# Altium schematic symbol library Power and Battery Management.SchLib: 645 symbols (part 1 of 15)
Pins are listed as number, name and electrical type; pins without a type are passive.

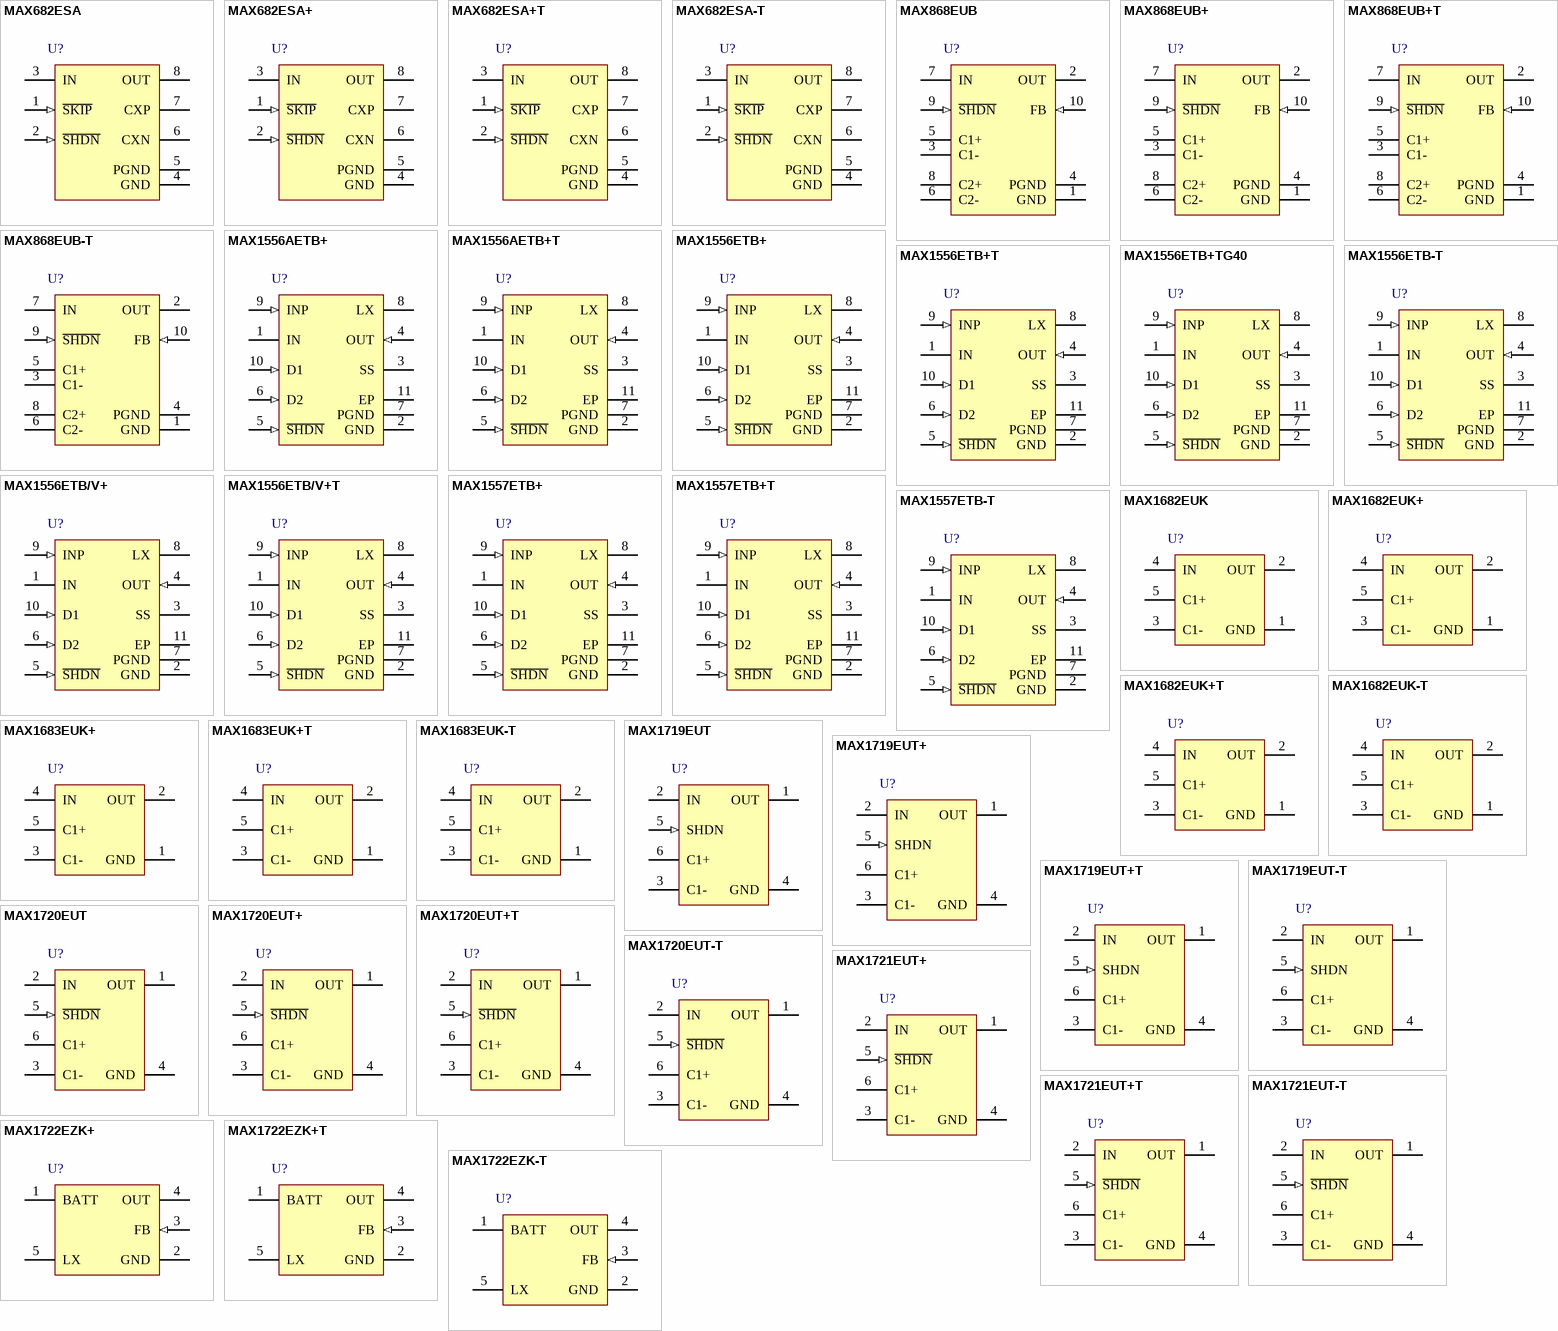
[diagram p0: symbols MAX682ESA to MAX1722EZK-T]

## MAX682ESA
designator U?
3.3V Input to Regulated 5V Output Charge Pump, 8-Pin SOIC, -40°C to +85°C; DatasheetVersion: Rev 1, Aug-1998; PackageVersion: revC, 2010; PackageReference: S8-5; PackageDescription: 8-Pin Small-Outline IC, Narrow (0.15in), 1.27 mm Pitch, SOIC (N); Code_JEDEC: MS-012-AA; Code_IPC: SOIC127P600-8; ComponentLink1Description: Manufacturer URL; ComponentLink1URL: http://www.maxim-ic.com; ComponentLink2Description: Datasheet; ComponentLink2URL: http://datasheets.maxim-ic.com/en/ds/MAX682-MAX684.pdf; ComponentLink3Description: Package Specification; ComponentLink3URL: http://pdfserv.maxim-ic.com/package_dwgs/21-0041.PDF
footprint S8-5_N (SOIC, 8-Leads, Body 4.9x3.9mm, Pitch 1.27mm, IPC Medium Density)
footprint S8-5_L (SOIC, 8-Leads, Body 4.9x3.9mm, Pitch 1.27mm, IPC High Density)
footprint S8-5_M (SOIC, 8-Leads, Body 4.9x3.9mm, Pitch 1.27mm, IPC Low Density)
pins: 1 ~{SKIP} (in), 2 ~{SHDN} (in), 3 IN (power), 4 GND (power), 5 PGND (power), 6 CXN, 7 CXP, 8 OUT (power)

## MAX682ESA+
designator U?
3.3V Input to Regulated 5V Output Charge Pump, 8-Pin SOIC, -40°C to +85°C, Pb-Free; DatasheetVersion: Rev 1, Aug-1998; PackageVersion: revC, 2010; PackageReference: S8+5; PackageDescription: 8-Pin Small-Outline IC, Narrow (0.15in), 1.27 mm Pitch, SOIC (N), Pb-Free; Code_JEDEC: MS-012-AA; Code_IPC: SOIC127P600-8; ComponentLink1Description: Manufacturer URL; ComponentLink1URL: http://www.maxim-ic.com; ComponentLink2Description: Datasheet; ComponentLink2URL: http://datasheets.maxim-ic.com/en/ds/MAX682-MAX684.pdf; ComponentLink3Description: Package Specification; ComponentLink3URL: http://pdfserv.maxim-ic.com/package_dwgs/21-0041.PDF
footprint S8+5_N (SOIC, 8-Leads, Body 4.9x3.9mm, Pitch 1.27mm, IPC Medium Density)
footprint S8+5_L (SOIC, 8-Leads, Body 4.9x3.9mm, Pitch 1.27mm, IPC High Density)
footprint S8+5_M (SOIC, 8-Leads, Body 4.9x3.9mm, Pitch 1.27mm, IPC Low Density)
pins: 1 ~{SKIP} (in), 2 ~{SHDN} (in), 3 IN (power), 4 GND (power), 5 PGND (power), 6 CXN, 7 CXP, 8 OUT (power)

## MAX682ESA+T
designator U?
3.3V Input to Regulated 5V Output Charge Pump, 8-Pin SOIC, -40°C to +85°C, Pb-Free, Tape and Reel; DatasheetVersion: Rev 1, Aug-1998; PackageVersion: revC, 2010; PackageReference: S8+5; PackageDescription: 8-Pin Small-Outline IC, Narrow (0.15in), 1.27 mm Pitch, SOIC (N), Pb-Free; Code_JEDEC: MS-012-AA; Code_IPC: SOIC127P600-8; ComponentLink1Description: Manufacturer URL; ComponentLink1URL: http://www.maxim-ic.com; ComponentLink2Description: Datasheet; ComponentLink2URL: http://datasheets.maxim-ic.com/en/ds/MAX682-MAX684.pdf; ComponentLink3Description: Package Specification; ComponentLink3URL: http://pdfserv.maxim-ic.com/package_dwgs/21-0041.PDF
footprint S8+5_N (SOIC, 8-Leads, Body 4.9x3.9mm, Pitch 1.27mm, IPC Medium Density)
footprint S8+5_L (SOIC, 8-Leads, Body 4.9x3.9mm, Pitch 1.27mm, IPC High Density)
footprint S8+5_M (SOIC, 8-Leads, Body 4.9x3.9mm, Pitch 1.27mm, IPC Low Density)
pins: 1 ~{SKIP} (in), 2 ~{SHDN} (in), 3 IN (power), 4 GND (power), 5 PGND (power), 6 CXN, 7 CXP, 8 OUT (power)

## MAX682ESA-T
designator U?
3.3V Input to Regulated 5V Output Charge Pump, 8-Pin SOIC, -40°C to +85°C, Tape and Reel; DatasheetVersion: Rev 1, Aug-1998; PackageVersion: revC, 2010; PackageReference: S8-5; PackageDescription: 8-Pin Small-Outline IC, Narrow (0.15in), 1.27 mm Pitch, SOIC (N); Code_JEDEC: MS-012-AA; Code_IPC: SOIC127P600-8; ComponentLink1Description: Manufacturer URL; ComponentLink1URL: http://www.maxim-ic.com; ComponentLink2Description: Datasheet; ComponentLink2URL: http://datasheets.maxim-ic.com/en/ds/MAX682-MAX684.pdf; ComponentLink3Description: Package Specification; ComponentLink3URL: http://pdfserv.maxim-ic.com/package_dwgs/21-0041.PDF
footprint S8-5_N (SOIC, 8-Leads, Body 4.9x3.9mm, Pitch 1.27mm, IPC Medium Density)
footprint S8-5_L (SOIC, 8-Leads, Body 4.9x3.9mm, Pitch 1.27mm, IPC High Density)
footprint S8-5_M (SOIC, 8-Leads, Body 4.9x3.9mm, Pitch 1.27mm, IPC Low Density)
pins: 1 ~{SKIP} (in), 2 ~{SHDN} (in), 3 IN (power), 4 GND (power), 5 PGND (power), 6 CXN, 7 CXP, 8 OUT (power)

## MAX868EUB
designator U?
Regulated, Adjustable -2x Inverting Charge Pump, 10-Pin uMAX, -40°C to +85°C; DatasheetVersion: Rev 1, Feb-1998; PackageVersion: revL, 2008; PackageReference: U10-2; PackageDescription: 10-Pin Micro-MAX Thin Shrink Small Outline (uSOP), 3 x 3 x 0.85 mm Body, 0.5 mm Pitch; Code_JEDEC: MO-187-BA; ComponentLink1Description: Manufacturer URL; ComponentLink1URL: http://www.maxim-ic.com; ComponentLink2Description: Datasheet; ComponentLink2URL: http://datasheets.maxim-ic.com/en/ds/MAX868.pdf; ComponentLink3Description: Package Specification; ComponentLink3URL: http://pdfserv.maxim-ic.com/package_dwgs/21-0061.PDF
footprint U10-2_N (TSSOP, 10-Leads, Body 3x3mm, Pitch 0.5mm, IPC Medium Density)
footprint U10-2_L (TSSOP, 10-Leads, Body 3x3mm, Pitch 0.5mm, IPC High Density)
footprint U10-2_M (TSSOP, 10-Leads, Body 3x3mm, Pitch 0.5mm, IPC Low Density)
pins: 1 GND (power), 2 OUT (power), 3 C1-, 4 PGND (power), 5 C1+, 6 C2-, 7 IN (power), 8 C2+, 9 ~{SHDN} (in), 10 FB (in)

## MAX868EUB+
designator U?
Regulated, Adjustable -2x Inverting Charge Pump, 10-Pin uMAX, -40°C to +85°C, Pb-Free; DatasheetVersion: Rev 1, Feb-1998; PackageVersion: revL, 2008; PackageReference: U10+2; PackageDescription: 10-Pin Micro-MAX Thin Shrink Small Outline (uSOP), 3 x 3 x 0.85 mm Body, 0.5 mm Pitch, Pb-Free; Code_JEDEC: MO-187-BA; ComponentLink1Description: Manufacturer URL; ComponentLink1URL: http://www.maxim-ic.com; ComponentLink2Description: Datasheet; ComponentLink2URL: http://datasheets.maxim-ic.com/en/ds/MAX868.pdf; ComponentLink3Description: Package Specification; ComponentLink3URL: http://pdfserv.maxim-ic.com/package_dwgs/21-0061.PDF
footprint U10+2_N (TSSOP, 10-Leads, Body 3x3mm, Pitch 0.5mm, IPC Medium Density)
footprint U10+2_L (TSSOP, 10-Leads, Body 3x3mm, Pitch 0.5mm, IPC High Density)
footprint U10+2_M (TSSOP, 10-Leads, Body 3x3mm, Pitch 0.5mm, IPC Low Density)
pins: 1 GND (power), 2 OUT (power), 3 C1-, 4 PGND (power), 5 C1+, 6 C2-, 7 IN (power), 8 C2+, 9 ~{SHDN} (in), 10 FB (in)

## MAX868EUB+T
designator U?
Regulated, Adjustable -2x Inverting Charge Pump, 10-Pin uMAX, -40°C to +85°C, Pb-Free, Tape and Reel; DatasheetVersion: Rev 1, Feb-1998; PackageVersion: revL, 2008; PackageReference: U10+2; PackageDescription: 10-Pin Micro-MAX Thin Shrink Small Outline (uSOP), 3 x 3 x 0.85 mm Body, 0.5 mm Pitch, Pb-Free; Code_JEDEC: MO-187-BA; ComponentLink1Description: Manufacturer URL; ComponentLink1URL: http://www.maxim-ic.com; ComponentLink2Description: Datasheet; ComponentLink2URL: http://datasheets.maxim-ic.com/en/ds/MAX868.pdf; ComponentLink3Description: Package Specification; ComponentLink3URL: http://pdfserv.maxim-ic.com/package_dwgs/21-0061.PDF
footprint U10+2_N (TSSOP, 10-Leads, Body 3x3mm, Pitch 0.5mm, IPC Medium Density)
footprint U10+2_L (TSSOP, 10-Leads, Body 3x3mm, Pitch 0.5mm, IPC High Density)
footprint U10+2_M (TSSOP, 10-Leads, Body 3x3mm, Pitch 0.5mm, IPC Low Density)
pins: 1 GND (power), 2 OUT (power), 3 C1-, 4 PGND (power), 5 C1+, 6 C2-, 7 IN (power), 8 C2+, 9 ~{SHDN} (in), 10 FB (in)

## MAX868EUB-T
designator U?
Regulated, Adjustable -2x Inverting Charge Pump, 10-Pin uMAX, -40°C to +85°C, Tape and Reel; DatasheetVersion: Rev 1, Feb-1998; PackageVersion: revL, 2008; PackageReference: U10-2; PackageDescription: 10-Pin Micro-MAX Thin Shrink Small Outline (uSOP), 3 x 3 x 0.85 mm Body, 0.5 mm Pitch; Code_JEDEC: MO-187-BA; ComponentLink1Description: Manufacturer URL; ComponentLink1URL: http://www.maxim-ic.com; ComponentLink2Description: Datasheet; ComponentLink2URL: http://datasheets.maxim-ic.com/en/ds/MAX868.pdf; ComponentLink3Description: Package Specification; ComponentLink3URL: http://pdfserv.maxim-ic.com/package_dwgs/21-0061.PDF
footprint U10-2_N (TSSOP, 10-Leads, Body 3x3mm, Pitch 0.5mm, IPC Medium Density)
footprint U10-2_L (TSSOP, 10-Leads, Body 3x3mm, Pitch 0.5mm, IPC High Density)
footprint U10-2_M (TSSOP, 10-Leads, Body 3x3mm, Pitch 0.5mm, IPC Low Density)
pins: 1 GND (power), 2 OUT (power), 3 C1-, 4 PGND (power), 5 C1+, 6 C2-, 7 IN (power), 8 C2+, 9 ~{SHDN} (in), 10 FB (in)

## MAX1556AETB+
designator U?
16uA IQ, 1.2A PWM Step-Down DC-DC Converter, 1.8V; 2.5V; 3.3V output, 10-Pin TDFN-EP, -40°C to +85°C, Pb-Free; DatasheetVersion: Rev 3, Jan-2011; PackageVersion: revJ, 2009; PackageReference: T1033+1; PackageDescription: 10-Pin Plastic Very Very Thin Dual Flatpack No Leads, Exposed Pad, 3 x 3 x 0.8 mm Body, TDFN-EP, Pb-Free; Code_JEDEC: MO-229-WEED-3; ComponentLink1Description: Manufacturer URL; ComponentLink1URL: http://www.maxim-ic.com; ComponentLink2Description: Datasheet; ComponentLink2URL: http://datasheets.maxim-ic.com/en/ds/MAX1556-MAX1557.pdf; ComponentLink3Description: Package Specification; ComponentLink3URL: http://pdfserv.maxim-ic.com/package_dwgs/21-0137.PDF
footprint T1033+1_V (SON, 10-Leads, Body 3x3mm, Pitch 0.5mm, Thermal Pad 2.35x1.58mm, Maxim Recommended)
pins: 1 IN (power), 2 GND (power), 3 SS, 4 OUT (in), 5 ~{SHDN} (in), 6 D2 (in), 7 PGND (power), 8 LX, 9 INP (in), 10 D1 (in), 11 EP (power)

## MAX1556AETB+T
designator U?
16uA IQ, 1.2A PWM Step-Down DC-DC Converter, 1.8V; 2.5V; 3.3V output, 10-Pin TDFN-EP, -40°C to +85°C, Pb-Free, Tape and Reel; DatasheetVersion: Rev 3, Jan-2011; PackageVersion: revJ, 2009; PackageReference: T1033+1; PackageDescription: 10-Pin Plastic Very Very Thin Dual Flatpack No Leads, Exposed Pad, 3 x 3 x 0.8 mm Body, TDFN-EP, Pb-Free; Code_JEDEC: MO-229-WEED-3; ComponentLink1Description: Manufacturer URL; ComponentLink1URL: http://www.maxim-ic.com; ComponentLink2Description: Datasheet; ComponentLink2URL: http://datasheets.maxim-ic.com/en/ds/MAX1556-MAX1557.pdf; ComponentLink3Description: Package Specification; ComponentLink3URL: http://pdfserv.maxim-ic.com/package_dwgs/21-0137.PDF
footprint T1033+1_V (SON, 10-Leads, Body 3x3mm, Pitch 0.5mm, Thermal Pad 2.35x1.58mm, Maxim Recommended)
pins: 1 IN (power), 2 GND (power), 3 SS, 4 OUT (in), 5 ~{SHDN} (in), 6 D2 (in), 7 PGND (power), 8 LX, 9 INP (in), 10 D1 (in), 11 EP (power)

## MAX1556ETB+
designator U?
16uA IQ, 1.2A PWM Step-Down DC-DC Converter, 1.8V; 2.5V; 3.3V output, 10-Pin TDFN-EP, -40°C to +85°C, Pb-Free; DatasheetVersion: Rev 3, Jan-2011; PackageVersion: revJ, 2009; PackageReference: T1033+1; PackageDescription: 10-Pin Plastic Very Very Thin Dual Flatpack No Leads, Exposed Pad, 3 x 3 x 0.8 mm Body, TDFN-EP, Pb-Free; Code_JEDEC: MO-229-WEED-3; ComponentLink1Description: Manufacturer URL; ComponentLink1URL: http://www.maxim-ic.com; ComponentLink2Description: Datasheet; ComponentLink2URL: http://datasheets.maxim-ic.com/en/ds/MAX1556-MAX1557.pdf; ComponentLink3Description: Package Specification; ComponentLink3URL: http://pdfserv.maxim-ic.com/package_dwgs/21-0137.PDF
footprint T1033+1_V (SON, 10-Leads, Body 3x3mm, Pitch 0.5mm, Thermal Pad 2.35x1.58mm, Maxim Recommended)
pins: 1 IN (power), 2 GND (power), 3 SS, 4 OUT (in), 5 ~{SHDN} (in), 6 D2 (in), 7 PGND (power), 8 LX, 9 INP (in), 10 D1 (in), 11 EP (power)

## MAX1556ETB+T
designator U?
16uA IQ, 1.2A PWM Step-Down DC-DC Converter, 1.8V; 2.5V; 3.3V output, 10-Pin TDFN-EP, -40°C to +85°C, Pb-Free, Tape and Reel; DatasheetVersion: Rev 3, Jan-2011; PackageVersion: revJ, 2009; PackageReference: T1033+1; PackageDescription: 10-Pin Plastic Very Very Thin Dual Flatpack No Leads, Exposed Pad, 3 x 3 x 0.8 mm Body, TDFN-EP, Pb-Free; Code_JEDEC: MO-229-WEED-3; ComponentLink1Description: Manufacturer URL; ComponentLink1URL: http://www.maxim-ic.com; ComponentLink2Description: Datasheet; ComponentLink2URL: http://datasheets.maxim-ic.com/en/ds/MAX1556-MAX1557.pdf; ComponentLink3Description: Package Specification; ComponentLink3URL: http://pdfserv.maxim-ic.com/package_dwgs/21-0137.PDF
footprint T1033+1_V (SON, 10-Leads, Body 3x3mm, Pitch 0.5mm, Thermal Pad 2.35x1.58mm, Maxim Recommended)
pins: 1 IN (power), 2 GND (power), 3 SS, 4 OUT (in), 5 ~{SHDN} (in), 6 D2 (in), 7 PGND (power), 8 LX, 9 INP (in), 10 D1 (in), 11 EP (power)

## MAX1556ETB+TG40
designator U?
16uA IQ, 1.2A PWM Step-Down DC-DC Converter, 1.8V; 2.5V; 3.3V output, 10-Pin TDFN-EP, -40°C to +85°C, Pb-Free, Tape and Reel; DatasheetVersion: Rev 3, Jan-2011; PackageVersion: revJ, 2009; PackageReference: T1033+1; PackageDescription: 10-Pin Plastic Very Very Thin Dual Flatpack No Leads, Exposed Pad, 3 x 3 x 0.8 mm Body, TDFN-EP, Pb-Free; Code_JEDEC: MO-229-WEED-3; ComponentLink1Description: Manufacturer URL; ComponentLink1URL: http://www.maxim-ic.com; ComponentLink2Description: Datasheet; ComponentLink2URL: http://datasheets.maxim-ic.com/en/ds/MAX1556-MAX1557.pdf; ComponentLink3Description: Package Specification; ComponentLink3URL: http://pdfserv.maxim-ic.com/package_dwgs/21-0137.PDF
footprint T1033+1_V (SON, 10-Leads, Body 3x3mm, Pitch 0.5mm, Thermal Pad 2.35x1.58mm, Maxim Recommended)
pins: 1 IN (power), 2 GND (power), 3 SS, 4 OUT (in), 5 ~{SHDN} (in), 6 D2 (in), 7 PGND (power), 8 LX, 9 INP (in), 10 D1 (in), 11 EP (power)

## MAX1556ETB-T
designator U?
16uA IQ, 1.2A PWM Step-Down DC-DC Converter, 1.8V; 2.5V; 3.3V output, 10-Pin TDFN-EP, -40°C to +85°C, Tape and Reel; DatasheetVersion: Rev 3, Jan-2011; PackageVersion: revJ, 2009; PackageReference: T1033-1; PackageDescription: 10-Pin Plastic Very Very Thin Dual Flatpack No Leads, Exposed Pad, 3 x 3 x 0.8 mm Body, TDFN-EP; Code_JEDEC: MO-229-WEED-3; ComponentLink1Description: Manufacturer URL; ComponentLink1URL: http://www.maxim-ic.com; ComponentLink2Description: Datasheet; ComponentLink2URL: http://datasheets.maxim-ic.com/en/ds/MAX1556-MAX1557.pdf; ComponentLink3Description: Package Specification; ComponentLink3URL: http://pdfserv.maxim-ic.com/package_dwgs/21-0137.PDF
footprint T1033-1_V (SON, 10-Leads, Body 3x3mm, Pitch 0.5mm, Thermal Pad 2.35x1.58mm, Maxim Recommended)
pins: 1 IN (power), 2 GND (power), 3 SS, 4 OUT (in), 5 ~{SHDN} (in), 6 D2 (in), 7 PGND (power), 8 LX, 9 INP (in), 10 D1 (in), 11 EP (power)

## MAX1556ETB/V+
designator U?
16uA IQ, 1.2A PWM Step-Down DC-DC Converter, 1.8V; 2.5V; 3.3V output, 10-Pin TDFN-EP, -40°C to +85°C, Pb-Free; DatasheetVersion: Rev 3, Jan-2011; PackageVersion: revJ, 2009; PackageReference: T1033+1; PackageDescription: 10-Pin Plastic Very Very Thin Dual Flatpack No Leads, Exposed Pad, 3 x 3 x 0.8 mm Body, TDFN-EP, Pb-Free; Code_JEDEC: MO-229-WEED-3; ComponentLink1Description: Manufacturer URL; ComponentLink1URL: http://www.maxim-ic.com; ComponentLink2Description: Datasheet; ComponentLink2URL: http://datasheets.maxim-ic.com/en/ds/MAX1556-MAX1557.pdf; ComponentLink3Description: Package Specification; ComponentLink3URL: http://pdfserv.maxim-ic.com/package_dwgs/21-0137.PDF
footprint T1033+1_V (SON, 10-Leads, Body 3x3mm, Pitch 0.5mm, Thermal Pad 2.35x1.58mm, Maxim Recommended)
pins: 1 IN (power), 2 GND (power), 3 SS, 4 OUT (in), 5 ~{SHDN} (in), 6 D2 (in), 7 PGND (power), 8 LX, 9 INP (in), 10 D1 (in), 11 EP (power)

## MAX1556ETB/V+T
designator U?
16uA IQ, 1.2A PWM Step-Down DC-DC Converter, 1.8V; 2.5V; 3.3V output, 10-Pin TDFN-EP, -40°C to +85°C, Pb-Free, Tape and Reel; DatasheetVersion: Rev 3, Jan-2011; PackageVersion: revJ, 2009; PackageReference: T1033+1; PackageDescription: 10-Pin Plastic Very Very Thin Dual Flatpack No Leads, Exposed Pad, 3 x 3 x 0.8 mm Body, TDFN-EP, Pb-Free; Code_JEDEC: MO-229-WEED-3; ComponentLink1Description: Manufacturer URL; ComponentLink1URL: http://www.maxim-ic.com; ComponentLink2Description: Datasheet; ComponentLink2URL: http://datasheets.maxim-ic.com/en/ds/MAX1556-MAX1557.pdf; ComponentLink3Description: Package Specification; ComponentLink3URL: http://pdfserv.maxim-ic.com/package_dwgs/21-0137.PDF
footprint T1033+1_V (SON, 10-Leads, Body 3x3mm, Pitch 0.5mm, Thermal Pad 2.35x1.58mm, Maxim Recommended)
pins: 1 IN (power), 2 GND (power), 3 SS, 4 OUT (in), 5 ~{SHDN} (in), 6 D2 (in), 7 PGND (power), 8 LX, 9 INP (in), 10 D1 (in), 11 EP (power)

## MAX1557ETB+
designator U?
16uA IQ, 1.2A PWM Step-Down DC-DC Converter, 1V; 1.3V; 1.5V output, 10-Pin TDFN-EP, -40°C to +85°C, Pb-Free; DatasheetVersion: Rev 3, Jan-2011; PackageVersion: revJ, 2009; PackageReference: T1033+1; PackageDescription: 10-Pin Plastic Very Very Thin Dual Flatpack No Leads, Exposed Pad, 3 x 3 x 0.8 mm Body, TDFN-EP, Pb-Free; Code_JEDEC: MO-229-WEED-3; ComponentLink1Description: Manufacturer URL; ComponentLink1URL: http://www.maxim-ic.com; ComponentLink2Description: Datasheet; ComponentLink2URL: http://datasheets.maxim-ic.com/en/ds/MAX1556-MAX1557.pdf; ComponentLink3Description: Package Specification; ComponentLink3URL: http://pdfserv.maxim-ic.com/package_dwgs/21-0137.PDF
footprint T1033+1_V (SON, 10-Leads, Body 3x3mm, Pitch 0.5mm, Thermal Pad 2.35x1.58mm, Maxim Recommended)
pins: 1 IN (power), 2 GND (power), 3 SS, 4 OUT (in), 5 ~{SHDN} (in), 6 D2 (in), 7 PGND (power), 8 LX, 9 INP (in), 10 D1 (in), 11 EP (power)

## MAX1557ETB+T
designator U?
16uA IQ, 1.2A PWM Step-Down DC-DC Converter, 1V; 1.3V; 1.5V output, 10-Pin TDFN-EP, -40°C to +85°C, Pb-Free, Tape and Reel; DatasheetVersion: Rev 3, Jan-2011; PackageVersion: revJ, 2009; PackageReference: T1033+1; PackageDescription: 10-Pin Plastic Very Very Thin Dual Flatpack No Leads, Exposed Pad, 3 x 3 x 0.8 mm Body, TDFN-EP, Pb-Free; Code_JEDEC: MO-229-WEED-3; ComponentLink1Description: Manufacturer URL; ComponentLink1URL: http://www.maxim-ic.com; ComponentLink2Description: Datasheet; ComponentLink2URL: http://datasheets.maxim-ic.com/en/ds/MAX1556-MAX1557.pdf; ComponentLink3Description: Package Specification; ComponentLink3URL: http://pdfserv.maxim-ic.com/package_dwgs/21-0137.PDF
footprint T1033+1_V (SON, 10-Leads, Body 3x3mm, Pitch 0.5mm, Thermal Pad 2.35x1.58mm, Maxim Recommended)
pins: 1 IN (power), 2 GND (power), 3 SS, 4 OUT (in), 5 ~{SHDN} (in), 6 D2 (in), 7 PGND (power), 8 LX, 9 INP (in), 10 D1 (in), 11 EP (power)

## MAX1557ETB-T
designator U?
16uA IQ, 1.2A PWM Step-Down DC-DC Converter, 1V; 1.3V; 1.5V output, 10-Pin TDFN-EP, -40°C to +85°C, Tape and Reel; DatasheetVersion: Rev 3, Jan-2011; PackageVersion: revJ, 2009; PackageReference: T1033-1; PackageDescription: 10-Pin Plastic Very Very Thin Dual Flatpack No Leads, Exposed Pad, 3 x 3 x 0.8 mm Body, TDFN-EP; Code_JEDEC: MO-229-WEED-3; ComponentLink1Description: Manufacturer URL; ComponentLink1URL: http://www.maxim-ic.com; ComponentLink2Description: Datasheet; ComponentLink2URL: http://datasheets.maxim-ic.com/en/ds/MAX1556-MAX1557.pdf; ComponentLink3Description: Package Specification; ComponentLink3URL: http://pdfserv.maxim-ic.com/package_dwgs/21-0137.PDF
footprint T1033-1_V (SON, 10-Leads, Body 3x3mm, Pitch 0.5mm, Thermal Pad 2.35x1.58mm, Maxim Recommended)
pins: 1 IN (power), 2 GND (power), 3 SS, 4 OUT (in), 5 ~{SHDN} (in), 6 D2 (in), 7 PGND (power), 8 LX, 9 INP (in), 10 D1 (in), 11 EP (power)

## MAX1682EUK
designator U?
Switched-Capacitor Voltage Doubler, 12kHz Oscillator, 5-Pin SOT, -40°C to +85°C; DatasheetVersion: Rev 3, Nov-2010; PackageVersion: revF, 2006; PackageReference: U5-2; PackageDescription: 5-Pin Small-Outline Transistor Package, 0.95 mm Pitch, 2.8 mm Lead Span, SOT-23; Code_JEDEC: MO-178AA; ComponentLink1Description: Manufacturer URL; ComponentLink1URL: http://www.maxim-ic.com; ComponentLink2Description: Datasheet; ComponentLink2URL: http://datasheets.maxim-ic.com/en/ds/MAX1682-MAX1683.pdf; ComponentLink3Description: Package Specification; ComponentLink3URL: http://pdfserv.maxim-ic.com/package_dwgs/21-0057.PDF
footprint U5-2_N (SOT23, 5-Leads, Body 2.9x1.6mm, Pitch 0.95mm, Lead Span 2.8mm, IPC Medium Density)
footprint U5-2_L (SOT23, 5-Leads, Body 2.9x1.6mm, Pitch 0.95mm, Lead Span 2.8mm, IPC High Density)
footprint U5-2_M (SOT23, 5-Leads, Body 2.9x1.6mm, Pitch 0.95mm, Lead Span 2.8mm, IPC Low Density)
pins: 1 GND (power), 2 OUT (power), 3 C1-, 4 IN (power), 5 C1+

## MAX1682EUK+
designator U?
Switched-Capacitor Voltage Doubler, 12kHz Oscillator, 5-Pin SOT, -40°C to +85°C, Pb-Free; DatasheetVersion: Rev 3, Nov-2010; PackageVersion: revF, 2006; PackageReference: U5+2; PackageDescription: 5-Pin Small-Outline Transistor Package, 0.95 mm Pitch, 2.8 mm Lead Span, SOT-23, Pb-Free; Code_JEDEC: MO-178AA; ComponentLink1Description: Manufacturer URL; ComponentLink1URL: http://www.maxim-ic.com; ComponentLink2Description: Datasheet; ComponentLink2URL: http://datasheets.maxim-ic.com/en/ds/MAX1682-MAX1683.pdf; ComponentLink3Description: Package Specification; ComponentLink3URL: http://pdfserv.maxim-ic.com/package_dwgs/21-0057.PDF
footprint U5+2_N (SOT23, 5-Leads, Body 2.9x1.6mm, Pitch 0.95mm, Lead Span 2.8mm, IPC Medium Density)
footprint U5+2_L (SOT23, 5-Leads, Body 2.9x1.6mm, Pitch 0.95mm, Lead Span 2.8mm, IPC High Density)
footprint U5+2_M (SOT23, 5-Leads, Body 2.9x1.6mm, Pitch 0.95mm, Lead Span 2.8mm, IPC Low Density)
pins: 1 GND (power), 2 OUT (power), 3 C1-, 4 IN (power), 5 C1+

## MAX1682EUK+T
designator U?
Switched-Capacitor Voltage Doubler, 12kHz Oscillator, 5-Pin SOT, -40°C to +85°C, Pb-Free, Tape and Reel; DatasheetVersion: Rev 3, Nov-2010; PackageVersion: revF, 2006; PackageReference: U5+2; PackageDescription: 5-Pin Small-Outline Transistor Package, 0.95 mm Pitch, 2.8 mm Lead Span, SOT-23, Pb-Free; Code_JEDEC: MO-178AA; ComponentLink1Description: Manufacturer URL; ComponentLink1URL: http://www.maxim-ic.com; ComponentLink2Description: Datasheet; ComponentLink2URL: http://datasheets.maxim-ic.com/en/ds/MAX1682-MAX1683.pdf; ComponentLink3Description: Package Specification; ComponentLink3URL: http://pdfserv.maxim-ic.com/package_dwgs/21-0057.PDF
footprint U5+2_N (SOT23, 5-Leads, Body 2.9x1.6mm, Pitch 0.95mm, Lead Span 2.8mm, IPC Medium Density)
footprint U5+2_L (SOT23, 5-Leads, Body 2.9x1.6mm, Pitch 0.95mm, Lead Span 2.8mm, IPC High Density)
footprint U5+2_M (SOT23, 5-Leads, Body 2.9x1.6mm, Pitch 0.95mm, Lead Span 2.8mm, IPC Low Density)
pins: 1 GND (power), 2 OUT (power), 3 C1-, 4 IN (power), 5 C1+

## MAX1682EUK-T
designator U?
Switched-Capacitor Voltage Doubler, 12kHz Oscillator, 5-Pin SOT, -40°C to +85°C, Tape and Reel; DatasheetVersion: Rev 3, Nov-2010; PackageVersion: revF, 2006; PackageReference: U5-2; PackageDescription: 5-Pin Small-Outline Transistor Package, 0.95 mm Pitch, 2.8 mm Lead Span, SOT-23; Code_JEDEC: MO-178AA; ComponentLink1Description: Manufacturer URL; ComponentLink1URL: http://www.maxim-ic.com; ComponentLink2Description: Datasheet; ComponentLink2URL: http://datasheets.maxim-ic.com/en/ds/MAX1682-MAX1683.pdf; ComponentLink3Description: Package Specification; ComponentLink3URL: http://pdfserv.maxim-ic.com/package_dwgs/21-0057.PDF
footprint U5-2_N (SOT23, 5-Leads, Body 2.9x1.6mm, Pitch 0.95mm, Lead Span 2.8mm, IPC Medium Density)
footprint U5-2_L (SOT23, 5-Leads, Body 2.9x1.6mm, Pitch 0.95mm, Lead Span 2.8mm, IPC High Density)
footprint U5-2_M (SOT23, 5-Leads, Body 2.9x1.6mm, Pitch 0.95mm, Lead Span 2.8mm, IPC Low Density)
pins: 1 GND (power), 2 OUT (power), 3 C1-, 4 IN (power), 5 C1+

## MAX1683EUK+
designator U?
Switched-Capacitor Voltage Doubler, 35kHz Oscillator, 5-Pin SOT, -40°C to +85°C, Pb-Free; DatasheetVersion: Rev 3, Nov-2010; PackageVersion: revF, 2006; PackageReference: U5+2; PackageDescription: 5-Pin Small-Outline Transistor Package, 0.95 mm Pitch, 2.8 mm Lead Span, SOT-23, Pb-Free; Code_JEDEC: MO-178AA; ComponentLink1Description: Manufacturer URL; ComponentLink1URL: http://www.maxim-ic.com; ComponentLink2Description: Datasheet; ComponentLink2URL: http://datasheets.maxim-ic.com/en/ds/MAX1682-MAX1683.pdf; ComponentLink3Description: Package Specification; ComponentLink3URL: http://pdfserv.maxim-ic.com/package_dwgs/21-0057.PDF
footprint U5+2_N (SOT23, 5-Leads, Body 2.9x1.6mm, Pitch 0.95mm, Lead Span 2.8mm, IPC Medium Density)
footprint U5+2_L (SOT23, 5-Leads, Body 2.9x1.6mm, Pitch 0.95mm, Lead Span 2.8mm, IPC High Density)
footprint U5+2_M (SOT23, 5-Leads, Body 2.9x1.6mm, Pitch 0.95mm, Lead Span 2.8mm, IPC Low Density)
pins: 1 GND (power), 2 OUT (power), 3 C1-, 4 IN (power), 5 C1+

## MAX1683EUK+T
designator U?
Switched-Capacitor Voltage Doubler, 35kHz Oscillator, 5-Pin SOT, -40°C to +85°C, Pb-Free, Tape and Reel; DatasheetVersion: Rev 3, Nov-2010; PackageVersion: revF, 2006; PackageReference: U5+2; PackageDescription: 5-Pin Small-Outline Transistor Package, 0.95 mm Pitch, 2.8 mm Lead Span, SOT-23, Pb-Free; Code_JEDEC: MO-178AA; ComponentLink1Description: Manufacturer URL; ComponentLink1URL: http://www.maxim-ic.com; ComponentLink2Description: Datasheet; ComponentLink2URL: http://datasheets.maxim-ic.com/en/ds/MAX1682-MAX1683.pdf; ComponentLink3Description: Package Specification; ComponentLink3URL: http://pdfserv.maxim-ic.com/package_dwgs/21-0057.PDF
footprint U5+2_N (SOT23, 5-Leads, Body 2.9x1.6mm, Pitch 0.95mm, Lead Span 2.8mm, IPC Medium Density)
footprint U5+2_L (SOT23, 5-Leads, Body 2.9x1.6mm, Pitch 0.95mm, Lead Span 2.8mm, IPC High Density)
footprint U5+2_M (SOT23, 5-Leads, Body 2.9x1.6mm, Pitch 0.95mm, Lead Span 2.8mm, IPC Low Density)
pins: 1 GND (power), 2 OUT (power), 3 C1-, 4 IN (power), 5 C1+

## MAX1683EUK-T
designator U?
Switched-Capacitor Voltage Doubler, 35kHz Oscillator, 5-Pin SOT, -40°C to +85°C, Tape and Reel; DatasheetVersion: Rev 3, Nov-2010; PackageVersion: revF, 2006; PackageReference: U5-2; PackageDescription: 5-Pin Small-Outline Transistor Package, 0.95 mm Pitch, 2.8 mm Lead Span, SOT-23; Code_JEDEC: MO-178AA; ComponentLink1Description: Manufacturer URL; ComponentLink1URL: http://www.maxim-ic.com; ComponentLink2Description: Datasheet; ComponentLink2URL: http://datasheets.maxim-ic.com/en/ds/MAX1682-MAX1683.pdf; ComponentLink3Description: Package Specification; ComponentLink3URL: http://pdfserv.maxim-ic.com/package_dwgs/21-0057.PDF
footprint U5-2_N (SOT23, 5-Leads, Body 2.9x1.6mm, Pitch 0.95mm, Lead Span 2.8mm, IPC Medium Density)
footprint U5-2_L (SOT23, 5-Leads, Body 2.9x1.6mm, Pitch 0.95mm, Lead Span 2.8mm, IPC High Density)
footprint U5-2_M (SOT23, 5-Leads, Body 2.9x1.6mm, Pitch 0.95mm, Lead Span 2.8mm, IPC Low Density)
pins: 1 GND (power), 2 OUT (power), 3 C1-, 4 IN (power), 5 C1+

## MAX1719EUT
designator U?
Switched-Capacitor Voltage Inverter with Shutdown, 125kHz, 6-Pin SOT, -40°C to +85°C; DatasheetVersion: Rev 2, Apr-2004; PackageVersion: revL, 2011; PackageReference: U6-4; PackageDescription: 6-Pin SOT-23 Package, 0.65 mm Pitch, 2.2 mm Lead Span; Code_JEDEC: MO-178-AB; ComponentLink1Description: Manufacturer URL; ComponentLink1URL: http://www.maxim-ic.com; ComponentLink2Description: Datasheet; ComponentLink2URL: http://datasheets.maxim-ic.com/en/ds/MAX1719-MAX1721.pdf; ComponentLink3Description: Package Specification; ComponentLink3URL: http://pdfserv.maxim-ic.com/package_dwgs/21-0058.PDF
footprint U6-4_N (SOT23, 6-Leads, Body 2.9x1.6mm, Pitch 0.95mm, Lead Span 2.8mm, IPC Medium Density)
footprint U6-4_L (SOT23, 6-Leads, Body 2.9x1.6mm, Pitch 0.95mm, Lead Span 2.8mm, IPC High Density)
footprint U6-4_M (SOT23, 6-Leads, Body 2.9x1.6mm, Pitch 0.95mm, Lead Span 2.8mm, IPC Low Density)
pins: 1 OUT (power), 2 IN (power), 3 C1-, 4 GND (power), 5 SHDN (in), 6 C1+

## MAX1719EUT+
designator U?
Switched-Capacitor Voltage Inverter with Shutdown, 125kHz, 6-Pin SOT, -40°C to +85°C, Pb-Free; DatasheetVersion: Rev 2, Apr-2004; PackageVersion: revL, 2011; PackageReference: U6+4; PackageDescription: 6-Pin SOT-23 Package, 0.65 mm Pitch, 2.2 mm Lead Span, Pb-Free; Code_JEDEC: MO-178-AB; ComponentLink1Description: Manufacturer URL; ComponentLink1URL: http://www.maxim-ic.com; ComponentLink2Description: Datasheet; ComponentLink2URL: http://datasheets.maxim-ic.com/en/ds/MAX1719-MAX1721.pdf; ComponentLink3Description: Package Specification; ComponentLink3URL: http://pdfserv.maxim-ic.com/package_dwgs/21-0058.PDF
footprint U6+4_N (SOT23, 6-Leads, Body 2.9x1.6mm, Pitch 0.95mm, Lead Span 2.8mm, IPC Medium Density)
footprint U6+4_L (SOT23, 6-Leads, Body 2.9x1.6mm, Pitch 0.95mm, Lead Span 2.8mm, IPC High Density)
footprint U6+4_M (SOT23, 6-Leads, Body 2.9x1.6mm, Pitch 0.95mm, Lead Span 2.8mm, IPC Low Density)
pins: 1 OUT (power), 2 IN (power), 3 C1-, 4 GND (power), 5 SHDN (in), 6 C1+

## MAX1719EUT+T
designator U?
Switched-Capacitor Voltage Inverter with Shutdown, 125kHz, 6-Pin SOT, -40°C to +85°C, Pb-Free, Tape and Reel; DatasheetVersion: Rev 2, Apr-2004; PackageVersion: revL, 2011; PackageReference: U6+4; PackageDescription: 6-Pin SOT-23 Package, 0.65 mm Pitch, 2.2 mm Lead Span, Pb-Free; Code_JEDEC: MO-178-AB; ComponentLink1Description: Manufacturer URL; ComponentLink1URL: http://www.maxim-ic.com; ComponentLink2Description: Datasheet; ComponentLink2URL: http://datasheets.maxim-ic.com/en/ds/MAX1719-MAX1721.pdf; ComponentLink3Description: Package Specification; ComponentLink3URL: http://pdfserv.maxim-ic.com/package_dwgs/21-0058.PDF
footprint U6+4_N (SOT23, 6-Leads, Body 2.9x1.6mm, Pitch 0.95mm, Lead Span 2.8mm, IPC Medium Density)
footprint U6+4_L (SOT23, 6-Leads, Body 2.9x1.6mm, Pitch 0.95mm, Lead Span 2.8mm, IPC High Density)
footprint U6+4_M (SOT23, 6-Leads, Body 2.9x1.6mm, Pitch 0.95mm, Lead Span 2.8mm, IPC Low Density)
pins: 1 OUT (power), 2 IN (power), 3 C1-, 4 GND (power), 5 SHDN (in), 6 C1+

## MAX1719EUT-T
designator U?
Switched-Capacitor Voltage Inverter with Shutdown, 125kHz, 6-Pin SOT, -40°C to +85°C, Tape and Reel; DatasheetVersion: Rev 2, Apr-2004; PackageVersion: revL, 2011; PackageReference: U6-4; PackageDescription: 6-Pin SOT-23 Package, 0.65 mm Pitch, 2.2 mm Lead Span; Code_JEDEC: MO-178-AB; ComponentLink1Description: Manufacturer URL; ComponentLink1URL: http://www.maxim-ic.com; ComponentLink2Description: Datasheet; ComponentLink2URL: http://datasheets.maxim-ic.com/en/ds/MAX1719-MAX1721.pdf; ComponentLink3Description: Package Specification; ComponentLink3URL: http://pdfserv.maxim-ic.com/package_dwgs/21-0058.PDF
footprint U6-4_N (SOT23, 6-Leads, Body 2.9x1.6mm, Pitch 0.95mm, Lead Span 2.8mm, IPC Medium Density)
footprint U6-4_L (SOT23, 6-Leads, Body 2.9x1.6mm, Pitch 0.95mm, Lead Span 2.8mm, IPC High Density)
footprint U6-4_M (SOT23, 6-Leads, Body 2.9x1.6mm, Pitch 0.95mm, Lead Span 2.8mm, IPC Low Density)
pins: 1 OUT (power), 2 IN (power), 3 C1-, 4 GND (power), 5 SHDN (in), 6 C1+

## MAX1720EUT
designator U?
Switched-Capacitor Voltage Inverter with Shutdown, 12kHz, 6-Pin SOT, -40°C to +85°C; DatasheetVersion: Rev 2, Apr-2004; PackageVersion: revL, 2011; PackageReference: U6-4; PackageDescription: 6-Pin SOT-23 Package, 0.65 mm Pitch, 2.2 mm Lead Span; Code_JEDEC: MO-178-AB; ComponentLink1Description: Manufacturer URL; ComponentLink1URL: http://www.maxim-ic.com; ComponentLink2Description: Datasheet; ComponentLink2URL: http://datasheets.maxim-ic.com/en/ds/MAX1719-MAX1721.pdf; ComponentLink3Description: Package Specification; ComponentLink3URL: http://pdfserv.maxim-ic.com/package_dwgs/21-0058.PDF
footprint U6-4_N (SOT23, 6-Leads, Body 2.9x1.6mm, Pitch 0.95mm, Lead Span 2.8mm, IPC Medium Density)
footprint U6-4_L (SOT23, 6-Leads, Body 2.9x1.6mm, Pitch 0.95mm, Lead Span 2.8mm, IPC High Density)
footprint U6-4_M (SOT23, 6-Leads, Body 2.9x1.6mm, Pitch 0.95mm, Lead Span 2.8mm, IPC Low Density)
pins: 1 OUT (power), 2 IN (power), 3 C1-, 4 GND (power), 5 ~{SHDN} (in), 6 C1+

## MAX1720EUT+
designator U?
Switched-Capacitor Voltage Inverter with Shutdown, 12kHz, 6-Pin SOT, -40°C to +85°C, Pb-Free; DatasheetVersion: Rev 2, Apr-2004; PackageVersion: revL, 2011; PackageReference: U6+4; PackageDescription: 6-Pin SOT-23 Package, 0.65 mm Pitch, 2.2 mm Lead Span, Pb-Free; Code_JEDEC: MO-178-AB; ComponentLink1Description: Manufacturer URL; ComponentLink1URL: http://www.maxim-ic.com; ComponentLink2Description: Datasheet; ComponentLink2URL: http://datasheets.maxim-ic.com/en/ds/MAX1719-MAX1721.pdf; ComponentLink3Description: Package Specification; ComponentLink3URL: http://pdfserv.maxim-ic.com/package_dwgs/21-0058.PDF
footprint U6+4_N (SOT23, 6-Leads, Body 2.9x1.6mm, Pitch 0.95mm, Lead Span 2.8mm, IPC Medium Density)
footprint U6+4_L (SOT23, 6-Leads, Body 2.9x1.6mm, Pitch 0.95mm, Lead Span 2.8mm, IPC High Density)
footprint U6+4_M (SOT23, 6-Leads, Body 2.9x1.6mm, Pitch 0.95mm, Lead Span 2.8mm, IPC Low Density)
pins: 1 OUT (power), 2 IN (power), 3 C1-, 4 GND (power), 5 ~{SHDN} (in), 6 C1+

## MAX1720EUT+T
designator U?
Switched-Capacitor Voltage Inverter with Shutdown, 12kHz, 6-Pin SOT, -40°C to +85°C, Pb-Free, Tape and Reel; DatasheetVersion: Rev 2, Apr-2004; PackageVersion: revL, 2011; PackageReference: U6+4; PackageDescription: 6-Pin SOT-23 Package, 0.65 mm Pitch, 2.2 mm Lead Span, Pb-Free; Code_JEDEC: MO-178-AB; ComponentLink1Description: Manufacturer URL; ComponentLink1URL: http://www.maxim-ic.com; ComponentLink2Description: Datasheet; ComponentLink2URL: http://datasheets.maxim-ic.com/en/ds/MAX1719-MAX1721.pdf; ComponentLink3Description: Package Specification; ComponentLink3URL: http://pdfserv.maxim-ic.com/package_dwgs/21-0058.PDF
footprint U6+4_N (SOT23, 6-Leads, Body 2.9x1.6mm, Pitch 0.95mm, Lead Span 2.8mm, IPC Medium Density)
footprint U6+4_L (SOT23, 6-Leads, Body 2.9x1.6mm, Pitch 0.95mm, Lead Span 2.8mm, IPC High Density)
footprint U6+4_M (SOT23, 6-Leads, Body 2.9x1.6mm, Pitch 0.95mm, Lead Span 2.8mm, IPC Low Density)
pins: 1 OUT (power), 2 IN (power), 3 C1-, 4 GND (power), 5 ~{SHDN} (in), 6 C1+

## MAX1720EUT-T
designator U?
Switched-Capacitor Voltage Inverter with Shutdown, 12kHz, 6-Pin SOT, -40°C to +85°C, Tape and Reel; DatasheetVersion: Rev 2, Apr-2004; PackageVersion: revL, 2011; PackageReference: U6-4; PackageDescription: 6-Pin SOT-23 Package, 0.65 mm Pitch, 2.2 mm Lead Span; Code_JEDEC: MO-178-AB; ComponentLink1Description: Manufacturer URL; ComponentLink1URL: http://www.maxim-ic.com; ComponentLink2Description: Datasheet; ComponentLink2URL: http://datasheets.maxim-ic.com/en/ds/MAX1719-MAX1721.pdf; ComponentLink3Description: Package Specification; ComponentLink3URL: http://pdfserv.maxim-ic.com/package_dwgs/21-0058.PDF
footprint U6-4_N (SOT23, 6-Leads, Body 2.9x1.6mm, Pitch 0.95mm, Lead Span 2.8mm, IPC Medium Density)
footprint U6-4_L (SOT23, 6-Leads, Body 2.9x1.6mm, Pitch 0.95mm, Lead Span 2.8mm, IPC High Density)
footprint U6-4_M (SOT23, 6-Leads, Body 2.9x1.6mm, Pitch 0.95mm, Lead Span 2.8mm, IPC Low Density)
pins: 1 OUT (power), 2 IN (power), 3 C1-, 4 GND (power), 5 ~{SHDN} (in), 6 C1+

## MAX1721EUT+
designator U?
Switched-Capacitor Voltage Inverter with Shutdown, 125kHz, 6-Pin SOT, -40°C to +85°C, Pb-Free; DatasheetVersion: Rev 2, Apr-2004; PackageVersion: revL, 2011; PackageReference: U6+4; PackageDescription: 6-Pin SOT-23 Package, 0.65 mm Pitch, 2.2 mm Lead Span, Pb-Free; Code_JEDEC: MO-178-AB; ComponentLink1Description: Manufacturer URL; ComponentLink1URL: http://www.maxim-ic.com; ComponentLink2Description: Datasheet; ComponentLink2URL: http://datasheets.maxim-ic.com/en/ds/MAX1719-MAX1721.pdf; ComponentLink3Description: Package Specification; ComponentLink3URL: http://pdfserv.maxim-ic.com/package_dwgs/21-0058.PDF
footprint U6+4_N (SOT23, 6-Leads, Body 2.9x1.6mm, Pitch 0.95mm, Lead Span 2.8mm, IPC Medium Density)
footprint U6+4_L (SOT23, 6-Leads, Body 2.9x1.6mm, Pitch 0.95mm, Lead Span 2.8mm, IPC High Density)
footprint U6+4_M (SOT23, 6-Leads, Body 2.9x1.6mm, Pitch 0.95mm, Lead Span 2.8mm, IPC Low Density)
pins: 1 OUT (power), 2 IN (power), 3 C1-, 4 GND (power), 5 ~{SHDN} (in), 6 C1+

## MAX1721EUT+T
designator U?
Switched-Capacitor Voltage Inverter with Shutdown, 125kHz, 6-Pin SOT, -40°C to +85°C, Pb-Free, Tape and Reel; DatasheetVersion: Rev 2, Apr-2004; PackageVersion: revL, 2011; PackageReference: U6+4; PackageDescription: 6-Pin SOT-23 Package, 0.65 mm Pitch, 2.2 mm Lead Span, Pb-Free; Code_JEDEC: MO-178-AB; ComponentLink1Description: Manufacturer URL; ComponentLink1URL: http://www.maxim-ic.com; ComponentLink2Description: Datasheet; ComponentLink2URL: http://datasheets.maxim-ic.com/en/ds/MAX1719-MAX1721.pdf; ComponentLink3Description: Package Specification; ComponentLink3URL: http://pdfserv.maxim-ic.com/package_dwgs/21-0058.PDF
footprint U6+4_N (SOT23, 6-Leads, Body 2.9x1.6mm, Pitch 0.95mm, Lead Span 2.8mm, IPC Medium Density)
footprint U6+4_L (SOT23, 6-Leads, Body 2.9x1.6mm, Pitch 0.95mm, Lead Span 2.8mm, IPC High Density)
footprint U6+4_M (SOT23, 6-Leads, Body 2.9x1.6mm, Pitch 0.95mm, Lead Span 2.8mm, IPC Low Density)
pins: 1 OUT (power), 2 IN (power), 3 C1-, 4 GND (power), 5 ~{SHDN} (in), 6 C1+

## MAX1721EUT-T
designator U?
Switched-Capacitor Voltage Inverter with Shutdown, 125kHz, 6-Pin SOT, -40°C to +85°C, Tape and Reel; DatasheetVersion: Rev 2, Apr-2004; PackageVersion: revL, 2011; PackageReference: U6-4; PackageDescription: 6-Pin SOT-23 Package, 0.65 mm Pitch, 2.2 mm Lead Span; Code_JEDEC: MO-178-AB; ComponentLink1Description: Manufacturer URL; ComponentLink1URL: http://www.maxim-ic.com; ComponentLink2Description: Datasheet; ComponentLink2URL: http://datasheets.maxim-ic.com/en/ds/MAX1719-MAX1721.pdf; ComponentLink3Description: Package Specification; ComponentLink3URL: http://pdfserv.maxim-ic.com/package_dwgs/21-0058.PDF
footprint U6-4_N (SOT23, 6-Leads, Body 2.9x1.6mm, Pitch 0.95mm, Lead Span 2.8mm, IPC Medium Density)
footprint U6-4_L (SOT23, 6-Leads, Body 2.9x1.6mm, Pitch 0.95mm, Lead Span 2.8mm, IPC High Density)
footprint U6-4_M (SOT23, 6-Leads, Body 2.9x1.6mm, Pitch 0.95mm, Lead Span 2.8mm, IPC Low Density)
pins: 1 OUT (power), 2 IN (power), 3 C1-, 4 GND (power), 5 ~{SHDN} (in), 6 C1+

## MAX1722EZK+
designator U?
1.5uA IQ, Step-Up DC-DC Converter, Adjustable output, LX damping, 5-Pin SOT, -40°C to +85°C, Pb-Free; DatasheetVersion: Rev 0, Jul-2001; PackageVersion: revD, 2010; PackageReference: Z5+1; PackageDescription: 5-Pin Thin Small-Outline Transistor, 2.9 x 1.6 mm Body, 0.95 mm Pitch, 2.8 mm Lead Span, SOT-23, Pb-Free; Code_JEITA: SC-74; Code_JEDEC: MO-193*; ComponentLink1Description: Manufacturer URL; ComponentLink1URL: http://www.maxim-ic.com; ComponentLink2Description: Datasheet; ComponentLink2URL: http://datasheets.maxim-ic.com/en/ds/MAX1722-MAX1724.pdf; ComponentLink3Description: Package Specification; ComponentLink3URL: http://pdfserv.maxim-ic.com/package_dwgs/21-0113.PDF
footprint Z5+1_N (SOT23, 5-Leads, Body 2.9x1.6mm, Pitch 0.95mm, Lead Span 2.8mm, IPC Medium Density)
footprint Z5+1_L (SOT23, 5-Leads, Body 2.9x1.6mm, Pitch 0.95mm, Lead Span 2.8mm, IPC High Density)
footprint Z5+1_M (SOT23, 5-Leads, Body 2.9x1.6mm, Pitch 0.95mm, Lead Span 2.8mm, IPC Low Density)
pins: 1 BATT (power), 2 GND (power), 3 FB (in), 4 OUT (power), 5 LX

## MAX1722EZK+T
designator U?
1.5uA IQ, Step-Up DC-DC Converter, Adjustable output, LX damping, 5-Pin SOT, -40°C to +85°C, Pb-Free, Tape and Reel; DatasheetVersion: Rev 0, Jul-2001; PackageVersion: revD, 2010; PackageReference: Z5+1; PackageDescription: 5-Pin Thin Small-Outline Transistor, 2.9 x 1.6 mm Body, 0.95 mm Pitch, 2.8 mm Lead Span, SOT-23, Pb-Free; Code_JEITA: SC-74; Code_JEDEC: MO-193*; ComponentLink1Description: Manufacturer URL; ComponentLink1URL: http://www.maxim-ic.com; ComponentLink2Description: Datasheet; ComponentLink2URL: http://datasheets.maxim-ic.com/en/ds/MAX1722-MAX1724.pdf; ComponentLink3Description: Package Specification; ComponentLink3URL: http://pdfserv.maxim-ic.com/package_dwgs/21-0113.PDF
footprint Z5+1_N (SOT23, 5-Leads, Body 2.9x1.6mm, Pitch 0.95mm, Lead Span 2.8mm, IPC Medium Density)
footprint Z5+1_L (SOT23, 5-Leads, Body 2.9x1.6mm, Pitch 0.95mm, Lead Span 2.8mm, IPC High Density)
footprint Z5+1_M (SOT23, 5-Leads, Body 2.9x1.6mm, Pitch 0.95mm, Lead Span 2.8mm, IPC Low Density)
pins: 1 BATT (power), 2 GND (power), 3 FB (in), 4 OUT (power), 5 LX

## MAX1722EZK-T
designator U?
1.5uA IQ, Step-Up DC-DC Converter, Adjustable output, LX damping, 5-Pin SOT, -40°C to +85°C, Tape and Reel; DatasheetVersion: Rev 0, Jul-2001; PackageVersion: revD, 2010; PackageReference: Z5-1; PackageDescription: 5-Pin Thin Small-Outline Transistor, 2.9 x 1.6 mm Body, 0.95 mm Pitch, 2.8 mm Lead Span, SOT-23; Code_JEITA: SC-74; Code_JEDEC: MO-193*; ComponentLink1Description: Manufacturer URL; ComponentLink1URL: http://www.maxim-ic.com; ComponentLink2Description: Datasheet; ComponentLink2URL: http://datasheets.maxim-ic.com/en/ds/MAX1722-MAX1724.pdf; ComponentLink3Description: Package Specification; ComponentLink3URL: http://pdfserv.maxim-ic.com/package_dwgs/21-0113.PDF
footprint Z5-1_N (SOT23, 5-Leads, Body 2.9x1.6mm, Pitch 0.95mm, Lead Span 2.8mm, IPC Medium Density)
footprint Z5-1_L (SOT23, 5-Leads, Body 2.9x1.6mm, Pitch 0.95mm, Lead Span 2.8mm, IPC High Density)
footprint Z5-1_M (SOT23, 5-Leads, Body 2.9x1.6mm, Pitch 0.95mm, Lead Span 2.8mm, IPC Low Density)
pins: 1 BATT (power), 2 GND (power), 3 FB (in), 4 OUT (power), 5 LX

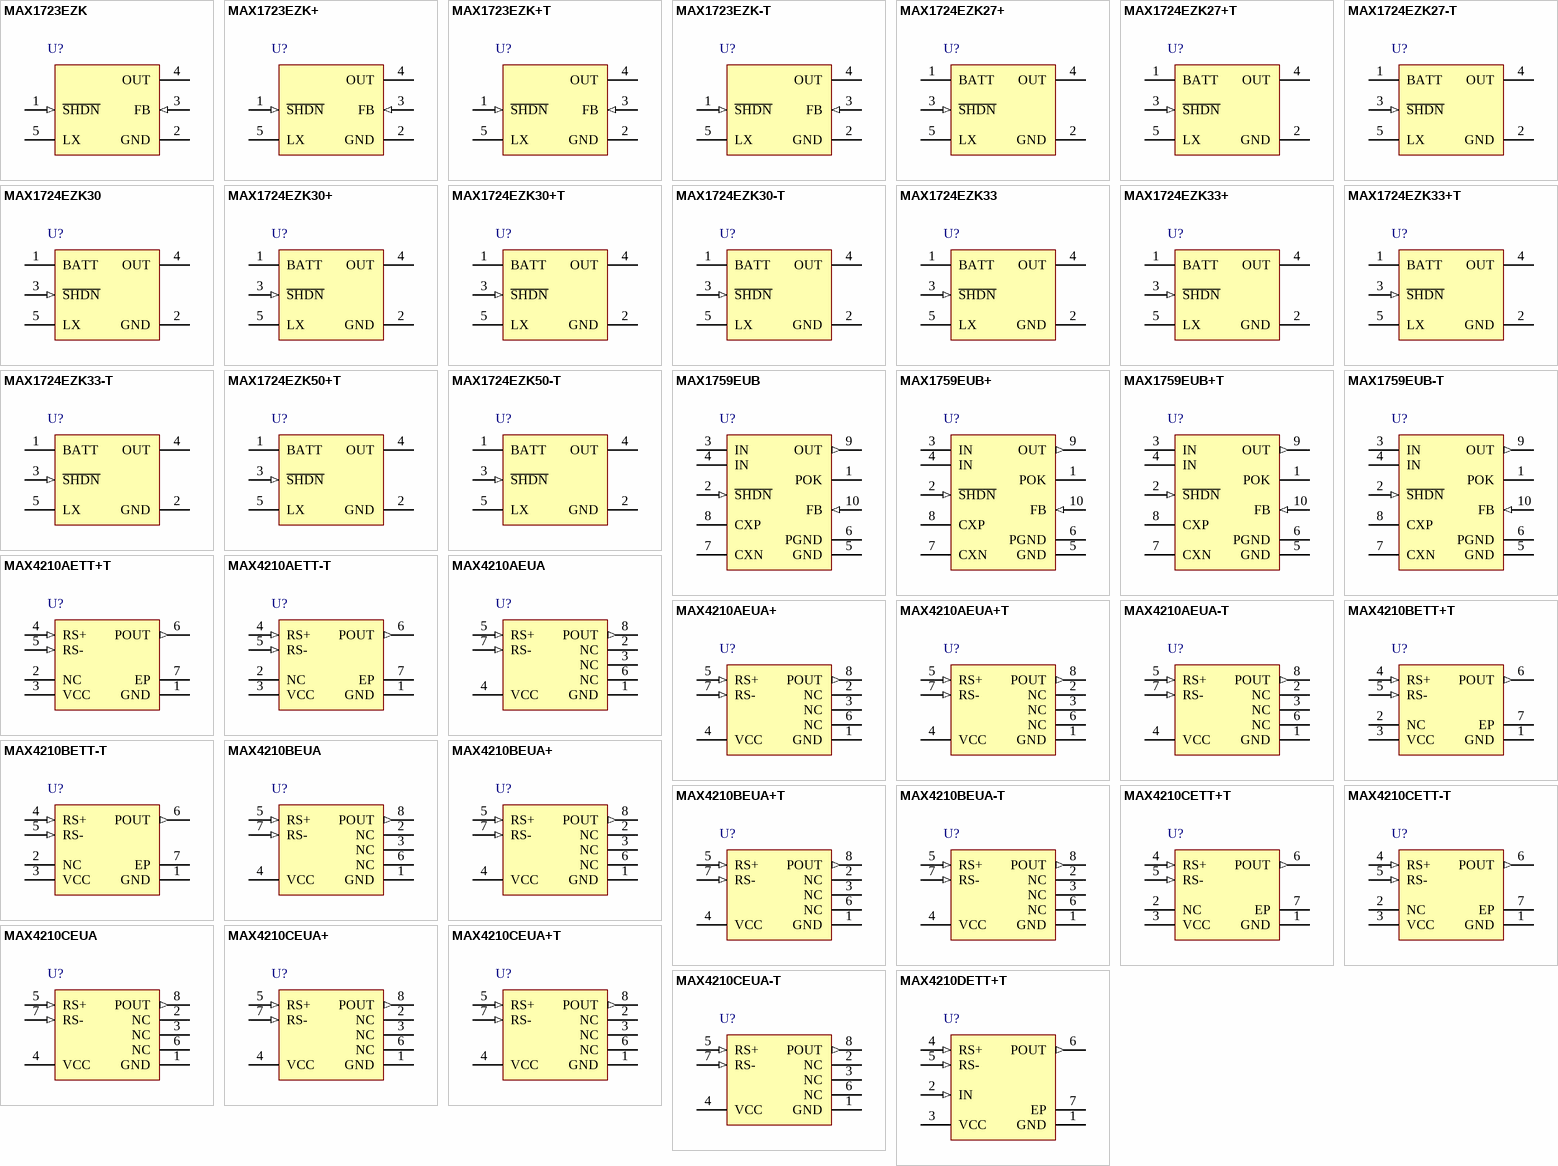
[diagram p1: symbols MAX1723EZK to MAX4210DETT+T]

## MAX1723EZK
designator U?
1.5uA IQ, Step-Up DC-DC Converter, Adjustable output, SHDN, 5-Pin SOT, -40°C to +85°C; DatasheetVersion: Rev 0, Jul-2001; PackageVersion: revD, 2010; PackageReference: Z5-1; PackageDescription: 5-Pin Thin Small-Outline Transistor, 2.9 x 1.6 mm Body, 0.95 mm Pitch, 2.8 mm Lead Span, SOT-23; Code_JEITA: SC-74; Code_JEDEC: MO-193*; ComponentLink1Description: Manufacturer URL; ComponentLink1URL: http://www.maxim-ic.com; ComponentLink2Description: Datasheet; ComponentLink2URL: http://datasheets.maxim-ic.com/en/ds/MAX1722-MAX1724.pdf; ComponentLink3Description: Package Specification; ComponentLink3URL: http://pdfserv.maxim-ic.com/package_dwgs/21-0113.PDF
footprint Z5-1_N (SOT23, 5-Leads, Body 2.9x1.6mm, Pitch 0.95mm, Lead Span 2.8mm, IPC Medium Density)
footprint Z5-1_L (SOT23, 5-Leads, Body 2.9x1.6mm, Pitch 0.95mm, Lead Span 2.8mm, IPC High Density)
footprint Z5-1_M (SOT23, 5-Leads, Body 2.9x1.6mm, Pitch 0.95mm, Lead Span 2.8mm, IPC Low Density)
pins: 1 ~{SHDN} (in), 2 GND (power), 3 FB (in), 4 OUT (power), 5 LX

## MAX1723EZK+
designator U?
1.5uA IQ, Step-Up DC-DC Converter, Adjustable output, SHDN, 5-Pin SOT, -40°C to +85°C, Pb-Free; DatasheetVersion: Rev 0, Jul-2001; PackageVersion: revD, 2010; PackageReference: Z5+1; PackageDescription: 5-Pin Thin Small-Outline Transistor, 2.9 x 1.6 mm Body, 0.95 mm Pitch, 2.8 mm Lead Span, SOT-23, Pb-Free; Code_JEITA: SC-74; Code_JEDEC: MO-193*; ComponentLink1Description: Manufacturer URL; ComponentLink1URL: http://www.maxim-ic.com; ComponentLink2Description: Datasheet; ComponentLink2URL: http://datasheets.maxim-ic.com/en/ds/MAX1722-MAX1724.pdf; ComponentLink3Description: Package Specification; ComponentLink3URL: http://pdfserv.maxim-ic.com/package_dwgs/21-0113.PDF
footprint Z5+1_N (SOT23, 5-Leads, Body 2.9x1.6mm, Pitch 0.95mm, Lead Span 2.8mm, IPC Medium Density)
footprint Z5+1_L (SOT23, 5-Leads, Body 2.9x1.6mm, Pitch 0.95mm, Lead Span 2.8mm, IPC High Density)
footprint Z5+1_M (SOT23, 5-Leads, Body 2.9x1.6mm, Pitch 0.95mm, Lead Span 2.8mm, IPC Low Density)
pins: 1 ~{SHDN} (in), 2 GND (power), 3 FB (in), 4 OUT (power), 5 LX

## MAX1723EZK+T
designator U?
1.5uA IQ, Step-Up DC-DC Converter, Adjustable output, SHDN, 5-Pin SOT, -40°C to +85°C, Pb-Free, Tape and Reel; DatasheetVersion: Rev 0, Jul-2001; PackageVersion: revD, 2010; PackageReference: Z5+1; PackageDescription: 5-Pin Thin Small-Outline Transistor, 2.9 x 1.6 mm Body, 0.95 mm Pitch, 2.8 mm Lead Span, SOT-23, Pb-Free; Code_JEITA: SC-74; Code_JEDEC: MO-193*; ComponentLink1Description: Manufacturer URL; ComponentLink1URL: http://www.maxim-ic.com; ComponentLink2Description: Datasheet; ComponentLink2URL: http://datasheets.maxim-ic.com/en/ds/MAX1722-MAX1724.pdf; ComponentLink3Description: Package Specification; ComponentLink3URL: http://pdfserv.maxim-ic.com/package_dwgs/21-0113.PDF
footprint Z5+1_N (SOT23, 5-Leads, Body 2.9x1.6mm, Pitch 0.95mm, Lead Span 2.8mm, IPC Medium Density)
footprint Z5+1_L (SOT23, 5-Leads, Body 2.9x1.6mm, Pitch 0.95mm, Lead Span 2.8mm, IPC High Density)
footprint Z5+1_M (SOT23, 5-Leads, Body 2.9x1.6mm, Pitch 0.95mm, Lead Span 2.8mm, IPC Low Density)
pins: 1 ~{SHDN} (in), 2 GND (power), 3 FB (in), 4 OUT (power), 5 LX

## MAX1723EZK-T
designator U?
1.5uA IQ, Step-Up DC-DC Converter, Adjustable output, SHDN, 5-Pin SOT, -40°C to +85°C, Tape and Reel; DatasheetVersion: Rev 0, Jul-2001; PackageVersion: revD, 2010; PackageReference: Z5-1; PackageDescription: 5-Pin Thin Small-Outline Transistor, 2.9 x 1.6 mm Body, 0.95 mm Pitch, 2.8 mm Lead Span, SOT-23; Code_JEITA: SC-74; Code_JEDEC: MO-193*; ComponentLink1Description: Manufacturer URL; ComponentLink1URL: http://www.maxim-ic.com; ComponentLink2Description: Datasheet; ComponentLink2URL: http://datasheets.maxim-ic.com/en/ds/MAX1722-MAX1724.pdf; ComponentLink3Description: Package Specification; ComponentLink3URL: http://pdfserv.maxim-ic.com/package_dwgs/21-0113.PDF
footprint Z5-1_N (SOT23, 5-Leads, Body 2.9x1.6mm, Pitch 0.95mm, Lead Span 2.8mm, IPC Medium Density)
footprint Z5-1_L (SOT23, 5-Leads, Body 2.9x1.6mm, Pitch 0.95mm, Lead Span 2.8mm, IPC High Density)
footprint Z5-1_M (SOT23, 5-Leads, Body 2.9x1.6mm, Pitch 0.95mm, Lead Span 2.8mm, IPC Low Density)
pins: 1 ~{SHDN} (in), 2 GND (power), 3 FB (in), 4 OUT (power), 5 LX

## MAX1724EZK27+
designator U?
1.5uA IQ, Step-Up DC-DC Converter, 2.7V output, SHDN, LX damping, 5-Pin SOT, -40°C to +85°C, Pb-Free; DatasheetVersion: Rev 0, Jul-2001; PackageVersion: revD, 2010; PackageReference: Z5+1; PackageDescription: 5-Pin Thin Small-Outline Transistor, 2.9 x 1.6 mm Body, 0.95 mm Pitch, 2.8 mm Lead Span, SOT-23, Pb-Free; Code_JEITA: SC-74; Code_JEDEC: MO-193*; ComponentLink1Description: Manufacturer URL; ComponentLink1URL: http://www.maxim-ic.com; ComponentLink2Description: Datasheet; ComponentLink2URL: http://datasheets.maxim-ic.com/en/ds/MAX1722-MAX1724.pdf; ComponentLink3Description: Package Specification; ComponentLink3URL: http://pdfserv.maxim-ic.com/package_dwgs/21-0113.PDF
footprint Z5+1_N (SOT23, 5-Leads, Body 2.9x1.6mm, Pitch 0.95mm, Lead Span 2.8mm, IPC Medium Density)
footprint Z5+1_L (SOT23, 5-Leads, Body 2.9x1.6mm, Pitch 0.95mm, Lead Span 2.8mm, IPC High Density)
footprint Z5+1_M (SOT23, 5-Leads, Body 2.9x1.6mm, Pitch 0.95mm, Lead Span 2.8mm, IPC Low Density)
pins: 1 BATT (power), 2 GND (power), 3 ~{SHDN} (in), 4 OUT (power), 5 LX

## MAX1724EZK27+T
designator U?
1.5uA IQ, Step-Up DC-DC Converter, 2.7V output, SHDN, LX damping, 5-Pin SOT, -40°C to +85°C, Pb-Free, Tape and Reel; DatasheetVersion: Rev 0, Jul-2001; PackageVersion: revD, 2010; PackageReference: Z5+1; PackageDescription: 5-Pin Thin Small-Outline Transistor, 2.9 x 1.6 mm Body, 0.95 mm Pitch, 2.8 mm Lead Span, SOT-23, Pb-Free; Code_JEITA: SC-74; Code_JEDEC: MO-193*; ComponentLink1Description: Manufacturer URL; ComponentLink1URL: http://www.maxim-ic.com; ComponentLink2Description: Datasheet; ComponentLink2URL: http://datasheets.maxim-ic.com/en/ds/MAX1722-MAX1724.pdf; ComponentLink3Description: Package Specification; ComponentLink3URL: http://pdfserv.maxim-ic.com/package_dwgs/21-0113.PDF
footprint Z5+1_N (SOT23, 5-Leads, Body 2.9x1.6mm, Pitch 0.95mm, Lead Span 2.8mm, IPC Medium Density)
footprint Z5+1_L (SOT23, 5-Leads, Body 2.9x1.6mm, Pitch 0.95mm, Lead Span 2.8mm, IPC High Density)
footprint Z5+1_M (SOT23, 5-Leads, Body 2.9x1.6mm, Pitch 0.95mm, Lead Span 2.8mm, IPC Low Density)
pins: 1 BATT (power), 2 GND (power), 3 ~{SHDN} (in), 4 OUT (power), 5 LX

## MAX1724EZK27-T
designator U?
1.5uA IQ, Step-Up DC-DC Converter, 2.7V output, SHDN, LX damping, 5-Pin SOT, -40°C to +85°C, Tape and Reel; DatasheetVersion: Rev 0, Jul-2001; PackageVersion: revD, 2010; PackageReference: Z5-1; PackageDescription: 5-Pin Thin Small-Outline Transistor, 2.9 x 1.6 mm Body, 0.95 mm Pitch, 2.8 mm Lead Span, SOT-23; Code_JEITA: SC-74; Code_JEDEC: MO-193*; ComponentLink1Description: Manufacturer URL; ComponentLink1URL: http://www.maxim-ic.com; ComponentLink2Description: Datasheet; ComponentLink2URL: http://datasheets.maxim-ic.com/en/ds/MAX1722-MAX1724.pdf; ComponentLink3Description: Package Specification; ComponentLink3URL: http://pdfserv.maxim-ic.com/package_dwgs/21-0113.PDF
footprint Z5-1_N (SOT23, 5-Leads, Body 2.9x1.6mm, Pitch 0.95mm, Lead Span 2.8mm, IPC Medium Density)
footprint Z5-1_L (SOT23, 5-Leads, Body 2.9x1.6mm, Pitch 0.95mm, Lead Span 2.8mm, IPC High Density)
footprint Z5-1_M (SOT23, 5-Leads, Body 2.9x1.6mm, Pitch 0.95mm, Lead Span 2.8mm, IPC Low Density)
pins: 1 BATT (power), 2 GND (power), 3 ~{SHDN} (in), 4 OUT (power), 5 LX

## MAX1724EZK30
designator U?
1.5uA IQ, Step-Up DC-DC Converter, 3V output, SHDN, LX damping, 5-Pin SOT, -40°C to +85°C; DatasheetVersion: Rev 0, Jul-2001; PackageVersion: revD, 2010; PackageReference: Z5-1; PackageDescription: 5-Pin Thin Small-Outline Transistor, 2.9 x 1.6 mm Body, 0.95 mm Pitch, 2.8 mm Lead Span, SOT-23; Code_JEITA: SC-74; Code_JEDEC: MO-193*; ComponentLink1Description: Manufacturer URL; ComponentLink1URL: http://www.maxim-ic.com; ComponentLink2Description: Datasheet; ComponentLink2URL: http://datasheets.maxim-ic.com/en/ds/MAX1722-MAX1724.pdf; ComponentLink3Description: Package Specification; ComponentLink3URL: http://pdfserv.maxim-ic.com/package_dwgs/21-0113.PDF
footprint Z5-1_N (SOT23, 5-Leads, Body 2.9x1.6mm, Pitch 0.95mm, Lead Span 2.8mm, IPC Medium Density)
footprint Z5-1_L (SOT23, 5-Leads, Body 2.9x1.6mm, Pitch 0.95mm, Lead Span 2.8mm, IPC High Density)
footprint Z5-1_M (SOT23, 5-Leads, Body 2.9x1.6mm, Pitch 0.95mm, Lead Span 2.8mm, IPC Low Density)
pins: 1 BATT (power), 2 GND (power), 3 ~{SHDN} (in), 4 OUT (power), 5 LX